# EAGLE library part HEADER_POS16_? (library con-molex-micro-fit-3_0)
Molex - Micro-Fit 3.0 Series connector, 3.00mm (0.118") pitch header, 16 positions.
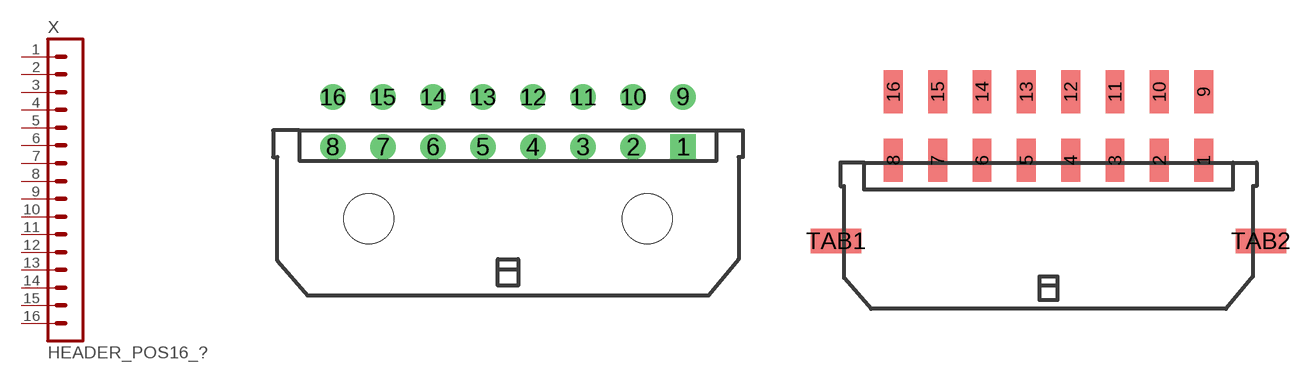
[diagram p8: symbol with the pads of 43045-1600; footprints 43045-1600, 43045-1609]

Designator prefix X

## HEADER_POS16_43045-1600  [43045-1600]
1  1  pas
2  2  pas
3  3  pas
4  4  pas
5  5  pas
6  6  pas
7  7  pas
8  8  pas
9  9  pas
10  10  pas
11  11  pas
12  12  pas
13  13  pas
14  14  pas
15  15  pas
16  16  pas

## HEADER_POS16_43045-1609  [43045-1609]
Pads as for 43045-1600

## HEADER_POS16_43045-1606  [43045-1606]
Pads as for 43045-1600

## HEADER_POS16_43045-1612  [43045-1612]
Pads as for 43045-1600

## HEADER_POS16_43045-1615  [43045-1615]
Pads as for 43045-1600

## HEADER_POS16_43045-1618  [43045-1618]
Pads as for 43045-1600

## HEADER_POS16_44914-1601  [44914-1601]
Pads as for 43045-1600

## HEADER_POS16_44769-1601  [44769-1601]
Pads as for 43045-1600

## HEADER_POS16_44432-1601  [44432-1601]
Pads as for 43045-1600

## HEADER_POS16_44428-1601  [44428-1601]
Pads as for 43045-1600

## HEADER_POS16_44764-1601  [44764-1601]
Pads as for 43045-1600

## Footprint 43045-1600 (pad centres in mm)
Molex Micro-Fit 3.0 - Header Shrouded, Thru hole, Right Angle; P/N: SD-43045-1600, SD-43045-1601, SD-43045-1602 http://www.molex.com/pdm_docs/sd/430450200_sd.pdf
drill 1.02 square: 1 10.5,4.32
drill 1.02: 2 7.5,4.32; 3 4.5,4.32; 4 1.5,4.32; 5 -1.5,4.32; 6 -4.5,4.32; 7 -7.5,4.32; 8 -10.5,4.32; 9 10.5,7.32; 10 7.5,7.32; 11 4.5,7.32; 12 1.5,7.32; 13 -1.5,7.32; 14 -4.5,7.32; 15 -7.5,7.32; 16 -10.5,7.32
hole 3 at 8.35,0
hole 3 at -8.35,0

## Footprint 43045-1609 (pad centres in mm)
Molex Micro-Fit 3.0 - Header Shrouded, Surface mount, Right Angle, Solderable tabs; P/N: SD-43045-1609, SD-43045-1610, SD-43045-1611 http://www.molex.com/pdm_docs/sd/430450209_sd.pdf
smd 1.27 x 2.92: 1 10.5,5.47; 2 7.5,5.47; 3 4.5,5.47; 4 1.5,5.47; 5 -1.5,5.47; 6 -4.5,5.47; 7 -7.5,5.47; 8 -10.5,5.47; 9 10.5,10.1; 10 7.5,10.1; 11 4.5,10.1; 12 1.5,10.1; 13 -1.5,10.1; 14 -4.5,10.1; 15 -7.5,10.1; 16 -10.5,10.1
smd 3.43 x 1.65: TAB1 -14.38,0; TAB2 14.38,0

## Footprint 43045-1606 (pad centres in mm)
Molex Micro-Fit 3.0 - Header Shrouded, Surface mount, Right Angle, Solderable Retention clips; P/N: SD-43045-1606, SD-43045-1607, SD-43045-1608 http://www.molex.com/pdm_docs/sd/430450206_sd.pdf
smd 1.27 x 2.92: 1 10.5,5.47; 2 7.5,5.47; 3 4.5,5.47; 4 1.5,5.47; 5 -1.5,5.47; 6 -4.5,5.47; 7 -7.5,5.47; 8 -10.5,5.47; 9 10.5,10.1; 10 7.5,10.1; 11 4.5,10.1; 12 1.5,10.1; 13 -1.5,10.1; 14 -4.5,10.1; 15 -7.5,10.1; 16 -10.5,10.1
hole 2.41 at -12.65,0
hole 2.41 at 12.65,0

## Footprint 43045-1612 (pad centres in mm)
Molex Micro-Fit 3.0 - Header Shrouded, Thru hole, Vertical, with Pegs; P/N: SD-43045-1612, SD-43045-1613, SD-43045-1614 http://www.molex.com/pdm_docs/sd/430450212_sd.pdf
drill 1.02 square: 1 10.5,0
drill 1.02: 2 7.5,0; 3 4.5,0; 4 1.5,0; 5 -1.5,0; 6 -4.5,0; 7 -7.5,0; 8 -10.5,0; 9 10.5,3; 10 7.5,3; 11 4.5,3; 12 1.5,3; 13 -1.5,3; 14 -4.5,3; 15 -7.5,3; 16 -10.5,3
hole 1.02 at 13.5,3.94
hole 1.02 at -13.5,3.94

## Footprint 43045-1615 (pad centres in mm)
Molex Micro-Fit 3.0 - Header Shrouded, Surface mount, Vertical, with Solderable Retention Clips; P/N: SD-43045-1615, SD-43045-1616, SD-43045-1617 http://www.molex.com/pdm_docs/sd/430450215_sd.pdf
smd 1.27 x 2.54: 1 10.5,-4.7; 2 7.5,-4.7; 3 4.5,-4.7; 4 1.5,-4.7; 5 -1.5,-4.7; 6 -4.5,-4.7; 7 -7.5,-4.7; 8 -10.5,-4.7; 9 10.5,4.7; 10 7.5,4.7; 11 4.5,4.7; 12 1.5,4.7; 13 -1.5,4.7; 14 -4.5,4.7; 15 -7.5,4.7; 16 -10.5,4.7
hole 2.41 at -12.65,0
hole 2.41 at 12.65,0

## Footprint 43045-1618 (pad centres in mm)
Molex Micro-Fit 3.0 - Header Shrouded, Surface mount, Vertical, with Solder Tabs; P/N: SD-43045-1618, SD-43045-1619, SD-43045-1620 http://www.molex.com/pdm_docs/sd/430450218_sd.pdf
smd 1.27 x 2.54: 1 10.5,-4.7; 2 7.5,-4.7; 3 4.5,-4.7; 4 1.5,-4.7; 5 -1.5,-4.7; 6 -4.5,-4.7; 7 -7.5,-4.7; 8 -10.5,-4.7; 9 10.5,4.7; 10 7.5,4.7; 11 4.5,4.7; 12 1.5,4.7; 13 -1.5,4.7; 14 -4.5,4.7; 15 -7.5,4.7; 16 -10.5,4.7
smd 3.43 x 1.65: CLIP1 -14.38,0; CLIP2 14.38,0

## Footprint 44914-1601 (pad centres in mm)
Molex Micro-Fit 3.0 - Header Shrouded, Thru hole, Vertical, Press-fit, with Pegs; P/N: SD-44914-1601, SD-44914-1602, SD-44914-1603 http://www.molex.com/pdm_docs/sd/449140201_sd.pdf
drill 1.09 square: 1 10.5,0
drill 1.09: 2 7.5,0; 3 4.5,0; 4 1.5,0; 5 -1.5,0; 6 -4.5,0; 7 -7.5,0; 8 -10.5,0; 9 10.5,3; 10 7.5,3; 11 4.5,3; 12 1.5,3; 13 -1.5,3; 14 -4.5,3; 15 -7.5,3; 16 -10.5,3
hole 1.02 at 13.5,3.94
hole 1.02 at -13.5,3.94

## Footprint 44769-1601 (pad centres in mm)
Molex Micro-Fit 3.0 - Board-to-Board BMI (Blind Mate Interface), Receptacle Vertical, Thru hole; P/N: SD-44769-1601, SD-44769-1602, SD-44769-1603 http://www.molex.com/pdm_docs/sd/447690401_sd.pdf
drill 1.02 square: 1 -10.5,0
drill 1.02: 2 -7.5,0; 3 -4.5,0; 4 -1.5,0; 5 1.5,0; 6 4.5,0; 7 7.5,0; 8 10.5,0; 9 -10.5,3; 10 -7.5,3; 11 -4.5,3; 12 -1.5,3; 13 1.5,3; 14 4.5,3; 15 7.5,3; 16 10.5,3
hole 2.36 at 13.5,3
hole 2.36 at -13.5,3

## Footprint 44432-1601 (pad centres in mm)
Molex Micro-Fit 3.0 - Board-to-Board BMI (Blind Mate Interface), Header Vertical, Thru hole, with Pegs; P/N: SD-44432-1601, SD-44432-1602, SD-44432-1603 http://www.molex.com/pdm_docs/sd/444320401_sd.pdf
drill 1.02 square: 1 10.5,-3
drill 1.02: 2 7.5,-3; 3 4.5,-3; 4 1.5,-3; 5 -1.5,-3; 6 -4.5,-3; 7 -7.5,-3; 8 -10.5,-3; 9 10.5,0; 10 7.5,0; 11 4.5,0; 12 1.5,0; 13 -1.5,0; 14 -4.5,0; 15 -7.5,0; 16 -10.5,0
hole 1.57 at -15,1.45
hole 1.57 at 15,1.45

## Footprint 44428-1601 (pad centres in mm)
Molex Micro-Fit 3.0 - Board-to-Board BMI (Blind Mate Interface), Header Right Angle, Thru hole, with Pegs; P/N: SD-44428-1601, SD-44428-1602, SD-44428-1603 http://www.molex.com/pdm_docs/sd/444280401_sd.pdf
drill 1.02 square: 1 10.5,0
drill 1.02: 2 7.5,0; 3 4.5,0; 4 1.5,0; 5 -1.5,0; 6 -4.5,0; 7 -7.5,0; 8 -10.5,0; 9 10.5,3; 10 7.5,3; 11 4.5,3; 12 1.5,3; 13 -1.5,3; 14 -4.5,3; 15 -7.5,3; 16 -10.5,3
hole 3 at 8.34,-8.53
hole 3 at -8.34,-8.53

## Footprint 44764-1601 (pad centres in mm)
Molex Micro-Fit 3.0 - Board-to-Board BMI (Blind Mate Interface), Receptacle, Right Angle, Thru hole; P/N: SD-44764-1601, SD-44764-1602, SD-44764-1603 http://www.molex.com/pdm_docs/sd/447640401_sd.pdf
drill 1.02 square: 1 -10.5,0
drill 1.02: 2 -7.5,0; 3 -4.5,0; 4 -1.5,0; 5 1.5,0; 6 4.5,0; 7 7.5,0; 8 10.5,0; 9 -10.5,3; 10 -7.5,3; 11 -4.5,3; 12 -1.5,3; 13 1.5,3; 14 4.5,3; 15 7.5,3; 16 10.5,3
hole 2.36 at -9,-3.05
hole 2.36 at 9,-3.05